# Altium schematic symbol library AVR_DA_family.SchLib: 2 symbols
Pins are listed as number, name and electrical type; pins without a type are passive.

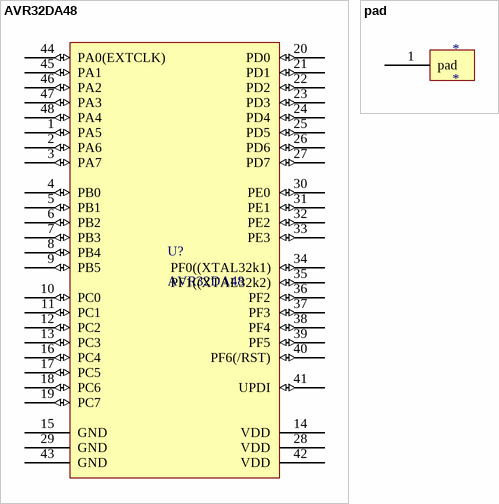
[diagram p0: symbols AVR32DA48 to pad]

## AVR32DA48
designator U?
footprint VQFN-48
pins: 1 PA5 (io), 2 PA6 (io), 3 PA7 (io), 4 PB0 (io), 5 PB1 (io), 6 PB2 (io), 7 PB3 (io), 8 PB4 (io), 9 PB5 (io), 10 PC0 (io), 11 PC1 (io), 12 PC2 (io), 13 PC3 (io), 14 VDD (power), 15 GND (power), 16 PC4 (io), 17 PC5 (io), 18 PC6 (io), 19 PC7 (io), 20 PD0 (io), 21 PD1 (io), 22 PD2 (io), 23 PD3 (io), 24 PD4 (io), 25 PD5 (io), 26 PD6 (io), 27 PD7 (io), 28 VDD (power), 29 GND (power), 30 PE0 (io), 31 PE1 (io), 32 PE2 (io), 33 PE3 (io), 34 PF0((XTAL32k1) (io), 35 PF1((XTAL32k2) (io), 36 PF2 (io), 37 PF3 (io), 38 PF4 (io), 39 PF5 (io), 40 PF6(/RST) (io), 41 UPDI (io), 42 VDD (power), 43 GND (power), 44 PA0(EXTCLK) (io), 45 PA1 (io), 46 PA2 (io), 47 PA3 (io), 48 PA4 (io)

## pad
designator *
pins: 1 pad